# Altium schematic symbol library Temperature Sensor.SchLib: 361 symbols (part 8 of 9)
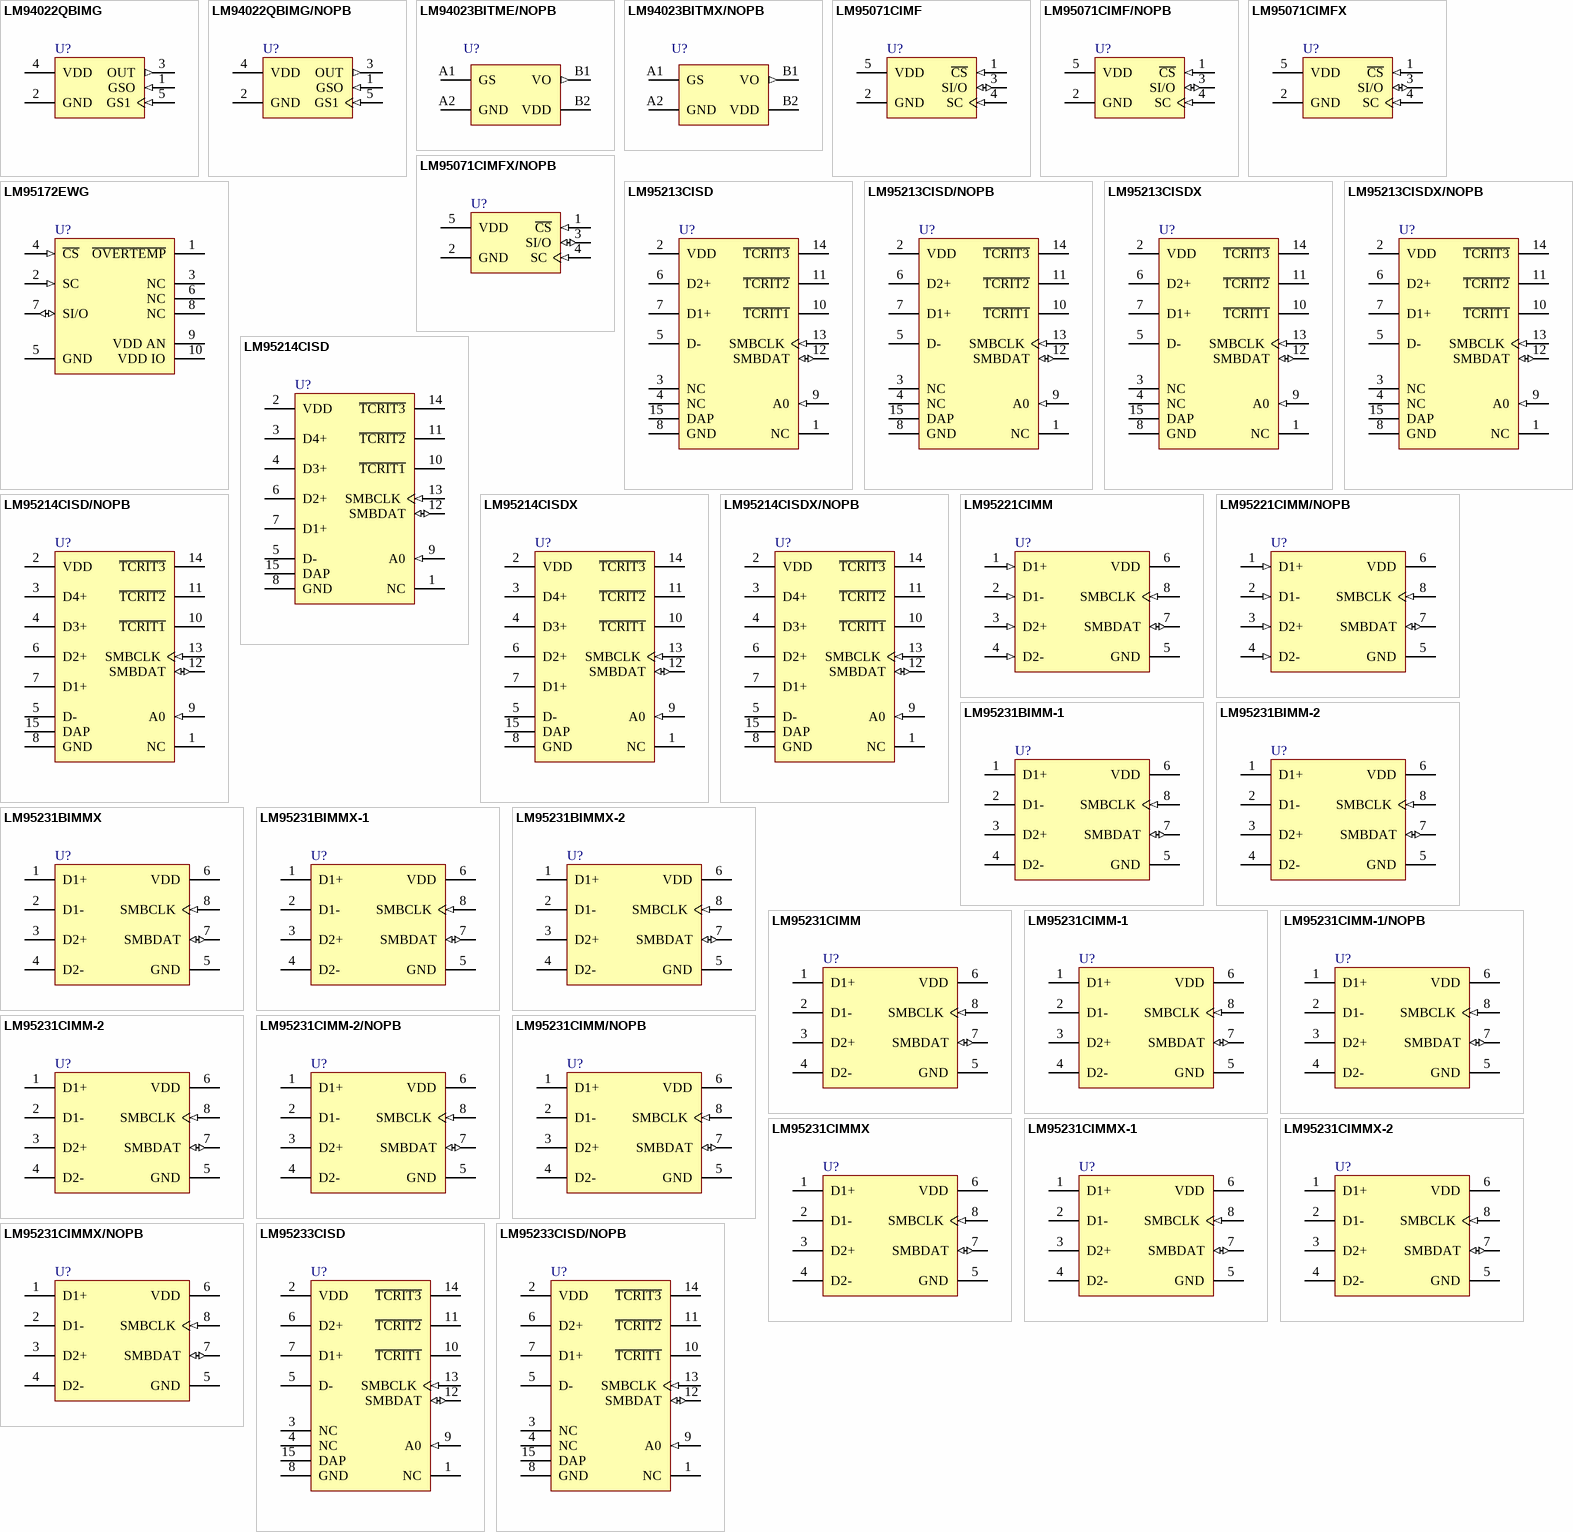
[diagram p16: symbols LM94022QBIMG to LM95233CISD/NOPB]

## LM95214CISDX/NOPB
designator U?
Quad Remote Diode and Local Temperature Sensor with SMBus Interface, 14-pin LLP, Pb-Free; PartNumber: LM95214CISDX/NOPB; Manufacturer: National Semiconductor; PackageTopMarking: NS*UZXYTT*95214CI; PowerWise: Y; CompType: Temp Sensor IC; DatasheetVersion: Mar-2007; PackageVersion: revA, Jul-2004; PackageReference: SDA14B; PackageDescription: LLP, Plastic, Dual, 4 x 4 x 0.8mm Body, 14 Lead, 0.5mm Pitch, No Pullback; RoHS: Y; PinCount: 14; High-Reliability: Y; ComponentLink1Description: Manufacturer URL; ComponentLink1URL: http://www.national.com/; ComponentLink2Description: LM95214 Datasheet; ComponentLink2URL: http://www.national.com/ds/LM/LM95214.pdf; ComponentLink3Description: LM95214 Web Page; ComponentLink3URL: http://www.national.com/pf/LM/LM95214.html; ComponentLink4Description: SDA14B Package Page; ComponentLink4URL: http://www.national.com/packaging/folders/sda14b.html
footprint SDA14B (SON, 14-Leads, Body 4x4mm, Pitch 0.5mm, NSC Recommended)
pins: 1 NC, 2 VDD (power), 3 D4+, 4 D3+, 5 D-, 6 D2+, 7 D1+, 8 GND (power), 9 A0 (in), 10 ~{TCRIT1} (oc), 11 ~{TCRIT2} (oc), 12 SMBDAT (io), 13 SMBCLK (in), 14 ~{TCRIT3} (oc), 15 DAP (power)

## LM95221CIMM
designator U?
Dual Remote Diode Digital Temperature Sensor with SMBus Interface, 8-pin Mini SOIC; PartNumber: LM95221CIMM; Manufacturer: National Semiconductor; PackageTopMarking: ZXTT*T21C; PowerWise: N; CompType: Temp Sensor IC; High-Reliability: Y; DatasheetVersion: May-2004; PackageVersion: revF, Apr-2008; PackageReference: MUA08A; PackageDescription: MINI SOIC, .118 x .118 x .034in, 8 Lead, .0256in Pitch; RoHS: N; PinCount: 8; Code_JEDEC: MO-187-AA; ComponentLink1Description: Manufacturer URL; ComponentLink1URL: http://www.national.com/; ComponentLink2Description: LM95221 Datasheet; ComponentLink2URL: http://www.national.com/ds/LM/LM95221.pdf; ComponentLink3Description: LM95221 Web Page; ComponentLink3URL: http://www.national.com/pf/LM/LM95221.html; ComponentLink4Description: MUA08A Package Page; ComponentLink4URL: http://www.national.com/packaging/folders/mua08a.html
footprint MUA08A_N (TSOP, 8-Leads, Body 3x3mm, Pitch 0.65mm, IPC Medium Density)
footprint MUA08A_L (TSOP, 8-Leads, Body 3x3mm, Pitch 0.65mm, IPC High Density)
footprint MUA08A_M (TSOP, 8-Leads, Body 3x3mm, Pitch 0.65mm, IPC Low Density)
pins: 1 D1+ (in), 2 D1- (in), 3 D2+ (in), 4 D2- (in), 5 GND (power), 6 VDD (power), 7 SMBDAT (io), 8 SMBCLK (in)

## LM95221CIMM/NOPB
designator U?
Dual Remote Diode Digital Temperature Sensor with SMBus Interface, 8-pin Mini SOIC, Pb-Free; PartNumber: LM95221CIMM/NOPB; Manufacturer: National Semiconductor; PackageTopMarking: ZXTT*T21C; PowerWise: N; CompType: Temp Sensor IC; High-Reliability: Y; DatasheetVersion: May-2004; PackageVersion: revF, Apr-2008; PackageReference: MUA08A; PackageDescription: MINI SOIC, .118 x .118 x .034in, 8 Lead, .0256in Pitch; RoHS: Y; PinCount: 8; Code_JEDEC: MO-187-AA; ComponentLink1Description: Manufacturer URL; ComponentLink1URL: http://www.national.com/; ComponentLink2Description: LM95221 Datasheet; ComponentLink2URL: http://www.national.com/ds/LM/LM95221.pdf; ComponentLink3Description: LM95221 Web Page; ComponentLink3URL: http://www.national.com/pf/LM/LM95221.html; ComponentLink4Description: MUA08A Package Page; ComponentLink4URL: http://www.national.com/packaging/folders/mua08a.html
footprint MUA08A_N (TSOP, 8-Leads, Body 3x3mm, Pitch 0.65mm, IPC Medium Density)
footprint MUA08A_L (TSOP, 8-Leads, Body 3x3mm, Pitch 0.65mm, IPC High Density)
footprint MUA08A_M (TSOP, 8-Leads, Body 3x3mm, Pitch 0.65mm, IPC Low Density)
pins: 1 D1+ (in), 2 D1- (in), 3 D2+ (in), 4 D2- (in), 5 GND (power), 6 VDD (power), 7 SMBDAT (io), 8 SMBCLK (in)

## LM95231BIMM-1
designator U?
Precision Dual Remote Diode Temperature Sensor with SMBus Interface and TruTherm Technology, 8-pin Mini SOIC; PartNumber: LM95231BIMM-1; Manufacturer: National Semiconductor; PackageTopMarking: ZXTT*T25B; PowerWise: N; CompType: Temp Sensor IC; High-Reliability: Y; DatasheetVersion: Aug-2006; PackageVersion: revF, Apr-2008; PackageReference: MUA08A; PackageDescription: MINI SOIC, .118 x .118 x .034in, 8 Lead, .0256in Pitch; RoHS: N; PinCount: 8; Code_JEDEC: MO-187-AA; ComponentLink1Description: Manufacturer URL; ComponentLink1URL: http://www.national.com/; ComponentLink2Description: LM95231 Datasheet; ComponentLink2URL: http://www.national.com/ds/LM/LM95231.pdf; ComponentLink3Description: LM95231 Web Page; ComponentLink3URL: http://www.national.com/pf/LM/LM95231.html; ComponentLink4Description: MUA08A Package Page; ComponentLink4URL: http://www.national.com/packaging/folders/mua08a.html
footprint MUA08A_N (TSOP, 8-Leads, Body 3x3mm, Pitch 0.65mm, IPC Medium Density)
footprint MUA08A_L (TSOP, 8-Leads, Body 3x3mm, Pitch 0.65mm, IPC High Density)
footprint MUA08A_M (TSOP, 8-Leads, Body 3x3mm, Pitch 0.65mm, IPC Low Density)
pins: 1 D1+, 2 D1-, 3 D2+, 4 D2-, 5 GND (power), 6 VDD (power), 7 SMBDAT (io), 8 SMBCLK (in)

## LM95231BIMM-2
designator U?
Precision Dual Remote Diode Temperature Sensor with SMBus Interface and TruTherm Technology, 8-pin Mini SOIC; PartNumber: LM95231BIMM-2; Manufacturer: National Semiconductor; PackageTopMarking: ZXTT*T26B; PowerWise: N; CompType: Temp Sensor IC; High-Reliability: Y; DatasheetVersion: Aug-2006; PackageVersion: revF, Apr-2008; PackageReference: MUA08A; PackageDescription: MINI SOIC, .118 x .118 x .034in, 8 Lead, .0256in Pitch; RoHS: N; PinCount: 8; Code_JEDEC: MO-187-AA; ComponentLink1Description: Manufacturer URL; ComponentLink1URL: http://www.national.com/; ComponentLink2Description: LM95231 Datasheet; ComponentLink2URL: http://www.national.com/ds/LM/LM95231.pdf; ComponentLink3Description: LM95231 Web Page; ComponentLink3URL: http://www.national.com/pf/LM/LM95231.html; ComponentLink4Description: MUA08A Package Page; ComponentLink4URL: http://www.national.com/packaging/folders/mua08a.html
footprint MUA08A_N (TSOP, 8-Leads, Body 3x3mm, Pitch 0.65mm, IPC Medium Density)
footprint MUA08A_L (TSOP, 8-Leads, Body 3x3mm, Pitch 0.65mm, IPC High Density)
footprint MUA08A_M (TSOP, 8-Leads, Body 3x3mm, Pitch 0.65mm, IPC Low Density)
pins: 1 D1+, 2 D1-, 3 D2+, 4 D2-, 5 GND (power), 6 VDD (power), 7 SMBDAT (io), 8 SMBCLK (in)

## LM95231BIMMX
designator U?
Precision Dual Remote Diode Temperature Sensor with SMBus Interface and TruTherm Technology, 8-pin Mini SOIC; PartNumber: LM95231BIMMX; Manufacturer: National Semiconductor; PackageTopMarking: ZXTT*T23B; PowerWise: N; CompType: Temp Sensor IC; High-Reliability: Y; DatasheetVersion: Aug-2006; PackageVersion: revF, Apr-2008; PackageReference: MUA08A; PackageDescription: MINI SOIC, .118 x .118 x .034in, 8 Lead, .0256in Pitch; RoHS: N; PinCount: 8; Code_JEDEC: MO-187-AA; ComponentLink1Description: Manufacturer URL; ComponentLink1URL: http://www.national.com/; ComponentLink2Description: LM95231 Datasheet; ComponentLink2URL: http://www.national.com/ds/LM/LM95231.pdf; ComponentLink3Description: LM95231 Web Page; ComponentLink3URL: http://www.national.com/pf/LM/LM95231.html; ComponentLink4Description: MUA08A Package Page; ComponentLink4URL: http://www.national.com/packaging/folders/mua08a.html
footprint MUA08A_N (TSOP, 8-Leads, Body 3x3mm, Pitch 0.65mm, IPC Medium Density)
footprint MUA08A_L (TSOP, 8-Leads, Body 3x3mm, Pitch 0.65mm, IPC High Density)
footprint MUA08A_M (TSOP, 8-Leads, Body 3x3mm, Pitch 0.65mm, IPC Low Density)
pins: 1 D1+, 2 D1-, 3 D2+, 4 D2-, 5 GND (power), 6 VDD (power), 7 SMBDAT (io), 8 SMBCLK (in)

## LM95231BIMMX-1
designator U?
Precision Dual Remote Diode Temperature Sensor with SMBus Interface and TruTherm Technology, 8-pin Mini SOIC; PartNumber: LM95231BIMMX-1; Manufacturer: National Semiconductor; PackageTopMarking: ZXTT*T25B; PowerWise: N; CompType: Temp Sensor IC; High-Reliability: Y; DatasheetVersion: Aug-2006; PackageVersion: revF, Apr-2008; PackageReference: MUA08A; PackageDescription: MINI SOIC, .118 x .118 x .034in, 8 Lead, .0256in Pitch; RoHS: N; PinCount: 8; Code_JEDEC: MO-187-AA; ComponentLink1Description: Manufacturer URL; ComponentLink1URL: http://www.national.com/; ComponentLink2Description: LM95231 Datasheet; ComponentLink2URL: http://www.national.com/ds/LM/LM95231.pdf; ComponentLink3Description: LM95231 Web Page; ComponentLink3URL: http://www.national.com/pf/LM/LM95231.html; ComponentLink4Description: MUA08A Package Page; ComponentLink4URL: http://www.national.com/packaging/folders/mua08a.html
footprint MUA08A_N (TSOP, 8-Leads, Body 3x3mm, Pitch 0.65mm, IPC Medium Density)
footprint MUA08A_L (TSOP, 8-Leads, Body 3x3mm, Pitch 0.65mm, IPC High Density)
footprint MUA08A_M (TSOP, 8-Leads, Body 3x3mm, Pitch 0.65mm, IPC Low Density)
pins: 1 D1+, 2 D1-, 3 D2+, 4 D2-, 5 GND (power), 6 VDD (power), 7 SMBDAT (io), 8 SMBCLK (in)

## LM95231BIMMX-2
designator U?
Precision Dual Remote Diode Temperature Sensor with SMBus Interface and TruTherm Technology, 8-pin Mini SOIC; PartNumber: LM95231BIMMX-2; Manufacturer: National Semiconductor; PackageTopMarking: ZXTT*T26B; PowerWise: N; CompType: Temp Sensor IC; High-Reliability: Y; DatasheetVersion: Aug-2006; PackageVersion: revF, Apr-2008; PackageReference: MUA08A; PackageDescription: MINI SOIC, .118 x .118 x .034in, 8 Lead, .0256in Pitch; RoHS: N; PinCount: 8; Code_JEDEC: MO-187-AA; ComponentLink1Description: Manufacturer URL; ComponentLink1URL: http://www.national.com/; ComponentLink2Description: LM95231 Datasheet; ComponentLink2URL: http://www.national.com/ds/LM/LM95231.pdf; ComponentLink3Description: LM95231 Web Page; ComponentLink3URL: http://www.national.com/pf/LM/LM95231.html; ComponentLink4Description: MUA08A Package Page; ComponentLink4URL: http://www.national.com/packaging/folders/mua08a.html
footprint MUA08A_N (TSOP, 8-Leads, Body 3x3mm, Pitch 0.65mm, IPC Medium Density)
footprint MUA08A_L (TSOP, 8-Leads, Body 3x3mm, Pitch 0.65mm, IPC High Density)
footprint MUA08A_M (TSOP, 8-Leads, Body 3x3mm, Pitch 0.65mm, IPC Low Density)
pins: 1 D1+, 2 D1-, 3 D2+, 4 D2-, 5 GND (power), 6 VDD (power), 7 SMBDAT (io), 8 SMBCLK (in)

## LM95231CIMM
designator U?
Precision Dual Remote Diode Temperature Sensor with SMBus Interface and TruTherm Technology, 8-pin Mini SOIC; PartNumber: LM95231CIMM; Manufacturer: National Semiconductor; PackageTopMarking: ZXTT*T23C; PowerWise: N; CompType: Temp Sensor IC; High-Reliability: Y; DatasheetVersion: Aug-2006; PackageVersion: revF, Apr-2008; PackageReference: MUA08A; PackageDescription: MINI SOIC, .118 x .118 x .034in, 8 Lead, .0256in Pitch; RoHS: Y; PinCount: 8; Code_JEDEC: MO-187-AA; ComponentLink1Description: Manufacturer URL; ComponentLink1URL: http://www.national.com/; ComponentLink2Description: LM95231 Datasheet; ComponentLink2URL: http://www.national.com/ds/LM/LM95231.pdf; ComponentLink3Description: LM95231 Web Page; ComponentLink3URL: http://www.national.com/pf/LM/LM95231.html; ComponentLink4Description: MUA08A Package Page; ComponentLink4URL: http://www.national.com/packaging/folders/mua08a.html
footprint MUA08A_N (TSOP, 8-Leads, Body 3x3mm, Pitch 0.65mm, IPC Medium Density)
footprint MUA08A_L (TSOP, 8-Leads, Body 3x3mm, Pitch 0.65mm, IPC High Density)
footprint MUA08A_M (TSOP, 8-Leads, Body 3x3mm, Pitch 0.65mm, IPC Low Density)
pins: 1 D1+, 2 D1-, 3 D2+, 4 D2-, 5 GND (power), 6 VDD (power), 7 SMBDAT (io), 8 SMBCLK (in)

## LM95231CIMM-1
designator U?
Precision Dual Remote Diode Temperature Sensor with SMBus Interface and TruTherm Technology, 8-pin Mini SOIC; PartNumber: LM95231CIMM-1; Manufacturer: National Semiconductor; PackageTopMarking: ZXTT*T25C; PowerWise: N; CompType: Temp Sensor IC; High-Reliability: Y; DatasheetVersion: Aug-2006; PackageVersion: revF, Apr-2008; PackageReference: MUA08A; PackageDescription: MINI SOIC, .118 x .118 x .034in, 8 Lead, .0256in Pitch; RoHS: N; PinCount: 8; Code_JEDEC: MO-187-AA; ComponentLink1Description: Manufacturer URL; ComponentLink1URL: http://www.national.com/; ComponentLink2Description: LM95231 Datasheet; ComponentLink2URL: http://www.national.com/ds/LM/LM95231.pdf; ComponentLink3Description: LM95231 Web Page; ComponentLink3URL: http://www.national.com/pf/LM/LM95231.html; ComponentLink4Description: MUA08A Package Page; ComponentLink4URL: http://www.national.com/packaging/folders/mua08a.html
footprint MUA08A_N (TSOP, 8-Leads, Body 3x3mm, Pitch 0.65mm, IPC Medium Density)
footprint MUA08A_L (TSOP, 8-Leads, Body 3x3mm, Pitch 0.65mm, IPC High Density)
footprint MUA08A_M (TSOP, 8-Leads, Body 3x3mm, Pitch 0.65mm, IPC Low Density)
pins: 1 D1+, 2 D1-, 3 D2+, 4 D2-, 5 GND (power), 6 VDD (power), 7 SMBDAT (io), 8 SMBCLK (in)

## LM95231CIMM-1/NOPB
designator U?
Precision Dual Remote Diode Temperature Sensor with SMBus Interface and TruTherm Technology, 8-pin Mini SOIC, Pb-Free; PartNumber: LM95231CIMM-1/NOPB; Manufacturer: National Semiconductor; PackageTopMarking: ZXTT*T25C; PowerWise: N; CompType: Temp Sensor IC; High-Reliability: Y; DatasheetVersion: Aug-2006; PackageVersion: revF, Apr-2008; PackageReference: MUA08A; PackageDescription: MINI SOIC, .118 x .118 x .034in, 8 Lead, .0256in Pitch; RoHS: Y; PinCount: 8; Code_JEDEC: MO-187-AA; ComponentLink1Description: Manufacturer URL; ComponentLink1URL: http://www.national.com/; ComponentLink2Description: LM95231 Datasheet; ComponentLink2URL: http://www.national.com/ds/LM/LM95231.pdf; ComponentLink3Description: LM95231 Web Page; ComponentLink3URL: http://www.national.com/pf/LM/LM95231.html; ComponentLink4Description: MUA08A Package Page; ComponentLink4URL: http://www.national.com/packaging/folders/mua08a.html
footprint MUA08A_N (TSOP, 8-Leads, Body 3x3mm, Pitch 0.65mm, IPC Medium Density)
footprint MUA08A_L (TSOP, 8-Leads, Body 3x3mm, Pitch 0.65mm, IPC High Density)
footprint MUA08A_M (TSOP, 8-Leads, Body 3x3mm, Pitch 0.65mm, IPC Low Density)
pins: 1 D1+, 2 D1-, 3 D2+, 4 D2-, 5 GND (power), 6 VDD (power), 7 SMBDAT (io), 8 SMBCLK (in)

## LM95231CIMM-2
designator U?
Precision Dual Remote Diode Temperature Sensor with SMBus Interface and TruTherm Technology, 8-pin Mini SOIC; PartNumber: LM95231CIMM-2; Manufacturer: National Semiconductor; PackageTopMarking: ZXTT*T26C; PowerWise: N; CompType: Temp Sensor IC; High-Reliability: Y; DatasheetVersion: Aug-2006; PackageVersion: revF, Apr-2008; PackageReference: MUA08A; PackageDescription: MINI SOIC, .118 x .118 x .034in, 8 Lead, .0256in Pitch; RoHS: N; PinCount: 8; Code_JEDEC: MO-187-AA; ComponentLink1Description: Manufacturer URL; ComponentLink1URL: http://www.national.com/; ComponentLink2Description: LM95231 Datasheet; ComponentLink2URL: http://www.national.com/ds/LM/LM95231.pdf; ComponentLink3Description: LM95231 Web Page; ComponentLink3URL: http://www.national.com/pf/LM/LM95231.html; ComponentLink4Description: MUA08A Package Page; ComponentLink4URL: http://www.national.com/packaging/folders/mua08a.html
footprint MUA08A_N (TSOP, 8-Leads, Body 3x3mm, Pitch 0.65mm, IPC Medium Density)
footprint MUA08A_L (TSOP, 8-Leads, Body 3x3mm, Pitch 0.65mm, IPC High Density)
footprint MUA08A_M (TSOP, 8-Leads, Body 3x3mm, Pitch 0.65mm, IPC Low Density)
pins: 1 D1+, 2 D1-, 3 D2+, 4 D2-, 5 GND (power), 6 VDD (power), 7 SMBDAT (io), 8 SMBCLK (in)

## LM95231CIMM-2/NOPB
designator U?
Precision Dual Remote Diode Temperature Sensor with SMBus Interface and TruTherm Technology, 8-pin Mini SOIC, Pb-Free; PartNumber: LM95231CIMM-2/NOPB; Manufacturer: National Semiconductor; PackageTopMarking: ZXTT*T26C; PowerWise: N; CompType: Temp Sensor IC; High-Reliability: Y; DatasheetVersion: Aug-2006; PackageVersion: revF, Apr-2008; PackageReference: MUA08A; PackageDescription: MINI SOIC, .118 x .118 x .034in, 8 Lead, .0256in Pitch; RoHS: Y; PinCount: 8; Code_JEDEC: MO-187-AA; ComponentLink1Description: Manufacturer URL; ComponentLink1URL: http://www.national.com/; ComponentLink2Description: LM95231 Datasheet; ComponentLink2URL: http://www.national.com/ds/LM/LM95231.pdf; ComponentLink3Description: LM95231 Web Page; ComponentLink3URL: http://www.national.com/pf/LM/LM95231.html; ComponentLink4Description: MUA08A Package Page; ComponentLink4URL: http://www.national.com/packaging/folders/mua08a.html
footprint MUA08A_N (TSOP, 8-Leads, Body 3x3mm, Pitch 0.65mm, IPC Medium Density)
footprint MUA08A_L (TSOP, 8-Leads, Body 3x3mm, Pitch 0.65mm, IPC High Density)
footprint MUA08A_M (TSOP, 8-Leads, Body 3x3mm, Pitch 0.65mm, IPC Low Density)
pins: 1 D1+, 2 D1-, 3 D2+, 4 D2-, 5 GND (power), 6 VDD (power), 7 SMBDAT (io), 8 SMBCLK (in)

## LM95231CIMM/NOPB
designator U?
Precision Dual Remote Diode Temperature Sensor with SMBus Interface and TruTherm Technology, 8-pin Mini SOIC, Pb-Free; PartNumber: LM95231CIMM/NOPB; Manufacturer: National Semiconductor; PackageTopMarking: ZXTT*T23C; PowerWise: N; CompType: Temp Sensor IC; High-Reliability: Y; DatasheetVersion: Aug-2006; PackageVersion: revF, Apr-2008; PackageReference: MUA08A; PackageDescription: MINI SOIC, .118 x .118 x .034in, 8 Lead, .0256in Pitch; RoHS: Y; PinCount: 8; Code_JEDEC: MO-187-AA; ComponentLink1Description: Manufacturer URL; ComponentLink1URL: http://www.national.com/; ComponentLink2Description: LM95231 Datasheet; ComponentLink2URL: http://www.national.com/ds/LM/LM95231.pdf; ComponentLink3Description: LM95231 Web Page; ComponentLink3URL: http://www.national.com/pf/LM/LM95231.html; ComponentLink4Description: MUA08A Package Page; ComponentLink4URL: http://www.national.com/packaging/folders/mua08a.html
footprint MUA08A_N (TSOP, 8-Leads, Body 3x3mm, Pitch 0.65mm, IPC Medium Density)
footprint MUA08A_L (TSOP, 8-Leads, Body 3x3mm, Pitch 0.65mm, IPC High Density)
footprint MUA08A_M (TSOP, 8-Leads, Body 3x3mm, Pitch 0.65mm, IPC Low Density)
pins: 1 D1+, 2 D1-, 3 D2+, 4 D2-, 5 GND (power), 6 VDD (power), 7 SMBDAT (io), 8 SMBCLK (in)

## LM95231CIMMX
designator U?
Precision Dual Remote Diode Temperature Sensor with SMBus Interface and TruTherm Technology, 8-pin Mini SOIC; PartNumber: LM95231CIMMX; Manufacturer: National Semiconductor; PackageTopMarking: ZXTT*T23C; PowerWise: N; CompType: Temp Sensor IC; High-Reliability: Y; DatasheetVersion: Aug-2006; PackageVersion: revF, Apr-2008; PackageReference: MUA08A; PackageDescription: MINI SOIC, .118 x .118 x .034in, 8 Lead, .0256in Pitch; RoHS: N; PinCount: 8; Code_JEDEC: MO-187-AA; ComponentLink1Description: Manufacturer URL; ComponentLink1URL: http://www.national.com/; ComponentLink2Description: LM95231 Datasheet; ComponentLink2URL: http://www.national.com/ds/LM/LM95231.pdf; ComponentLink3Description: LM95231 Web Page; ComponentLink3URL: http://www.national.com/pf/LM/LM95231.html; ComponentLink4Description: MUA08A Package Page; ComponentLink4URL: http://www.national.com/packaging/folders/mua08a.html
footprint MUA08A_N (TSOP, 8-Leads, Body 3x3mm, Pitch 0.65mm, IPC Medium Density)
footprint MUA08A_L (TSOP, 8-Leads, Body 3x3mm, Pitch 0.65mm, IPC High Density)
footprint MUA08A_M (TSOP, 8-Leads, Body 3x3mm, Pitch 0.65mm, IPC Low Density)
pins: 1 D1+, 2 D1-, 3 D2+, 4 D2-, 5 GND (power), 6 VDD (power), 7 SMBDAT (io), 8 SMBCLK (in)

## LM95231CIMMX-1
designator U?
Precision Dual Remote Diode Temperature Sensor with SMBus Interface and TruTherm Technology, 8-pin Mini SOIC; PartNumber: LM95231CIMMX-1; Manufacturer: National Semiconductor; PackageTopMarking: ZXTT*T25C; PowerWise: N; CompType: Temp Sensor IC; High-Reliability: Y; DatasheetVersion: Aug-2006; PackageVersion: revF, Apr-2008; PackageReference: MUA08A; PackageDescription: MINI SOIC, .118 x .118 x .034in, 8 Lead, .0256in Pitch; RoHS: N; PinCount: 8; Code_JEDEC: MO-187-AA; ComponentLink1Description: Manufacturer URL; ComponentLink1URL: http://www.national.com/; ComponentLink2Description: LM95231 Datasheet; ComponentLink2URL: http://www.national.com/ds/LM/LM95231.pdf; ComponentLink3Description: LM95231 Web Page; ComponentLink3URL: http://www.national.com/pf/LM/LM95231.html; ComponentLink4Description: MUA08A Package Page; ComponentLink4URL: http://www.national.com/packaging/folders/mua08a.html
footprint MUA08A_N (TSOP, 8-Leads, Body 3x3mm, Pitch 0.65mm, IPC Medium Density)
footprint MUA08A_L (TSOP, 8-Leads, Body 3x3mm, Pitch 0.65mm, IPC High Density)
footprint MUA08A_M (TSOP, 8-Leads, Body 3x3mm, Pitch 0.65mm, IPC Low Density)
pins: 1 D1+, 2 D1-, 3 D2+, 4 D2-, 5 GND (power), 6 VDD (power), 7 SMBDAT (io), 8 SMBCLK (in)

## LM95231CIMMX-2
designator U?
Precision Dual Remote Diode Temperature Sensor with SMBus Interface and TruTherm Technology, 8-pin Mini SOIC; PartNumber: LM95231CIMMX-2; Manufacturer: National Semiconductor; PackageTopMarking: ZXTT*T26C; PowerWise: N; CompType: Temp Sensor IC; High-Reliability: Y; DatasheetVersion: Aug-2006; PackageVersion: revF, Apr-2008; PackageReference: MUA08A; PackageDescription: MINI SOIC, .118 x .118 x .034in, 8 Lead, .0256in Pitch; RoHS: N; PinCount: 8; Code_JEDEC: MO-187-AA; ComponentLink1Description: Manufacturer URL; ComponentLink1URL: http://www.national.com/; ComponentLink2Description: LM95231 Datasheet; ComponentLink2URL: http://www.national.com/ds/LM/LM95231.pdf; ComponentLink3Description: LM95231 Web Page; ComponentLink3URL: http://www.national.com/pf/LM/LM95231.html; ComponentLink4Description: MUA08A Package Page; ComponentLink4URL: http://www.national.com/packaging/folders/mua08a.html
footprint MUA08A_N (TSOP, 8-Leads, Body 3x3mm, Pitch 0.65mm, IPC Medium Density)
footprint MUA08A_L (TSOP, 8-Leads, Body 3x3mm, Pitch 0.65mm, IPC High Density)
footprint MUA08A_M (TSOP, 8-Leads, Body 3x3mm, Pitch 0.65mm, IPC Low Density)
pins: 1 D1+, 2 D1-, 3 D2+, 4 D2-, 5 GND (power), 6 VDD (power), 7 SMBDAT (io), 8 SMBCLK (in)

## LM95231CIMMX/NOPB
designator U?
Precision Dual Remote Diode Temperature Sensor with SMBus Interface and TruTherm Technology, 8-pin Mini SOIC, Pb-Free; PartNumber: LM95231CIMMX/NOPB; Manufacturer: National Semiconductor; PackageTopMarking: ZXTT*T23C; PowerWise: N; CompType: Temp Sensor IC; High-Reliability: Y; DatasheetVersion: Aug-2006; PackageVersion: revF, Apr-2008; PackageReference: MUA08A; PackageDescription: MINI SOIC, .118 x .118 x .034in, 8 Lead, .0256in Pitch; RoHS: Y; PinCount: 8; Code_JEDEC: MO-187-AA; ComponentLink1Description: Manufacturer URL; ComponentLink1URL: http://www.national.com/; ComponentLink2Description: LM95231 Datasheet; ComponentLink2URL: http://www.national.com/ds/LM/LM95231.pdf; ComponentLink3Description: LM95231 Web Page; ComponentLink3URL: http://www.national.com/pf/LM/LM95231.html; ComponentLink4Description: MUA08A Package Page; ComponentLink4URL: http://www.national.com/packaging/folders/mua08a.html
footprint MUA08A_N (TSOP, 8-Leads, Body 3x3mm, Pitch 0.65mm, IPC Medium Density)
footprint MUA08A_L (TSOP, 8-Leads, Body 3x3mm, Pitch 0.65mm, IPC High Density)
footprint MUA08A_M (TSOP, 8-Leads, Body 3x3mm, Pitch 0.65mm, IPC Low Density)
pins: 1 D1+, 2 D1-, 3 D2+, 4 D2-, 5 GND (power), 6 VDD (power), 7 SMBDAT (io), 8 SMBCLK (in)

## LM95233CISD
designator U?
Dual Remote Diode and Local Temperature Sensor with SMBus Interface and TruTherm Technology, 15-pin LLP; PartNumber: LM95233CISD; Manufacturer: National Semiconductor; PackageTopMarking: NS*UZXYTT*95233CI; PowerWise: Y; CompType: Temp Sensor IC; DatasheetVersion: Jun-2007; PackageVersion: revA, Jul-2004; PackageReference: SDA14B; PackageDescription: LLP, Plastic, Dual, 4 x 4 x 0.8mm Body, 14 Lead, 0.5mm Pitch, No Pullback; RoHS: N; PinCount: 14; High-Reliability: Y; ComponentLink1Description: Manufacturer URL; ComponentLink1URL: http://www.national.com/; ComponentLink2Description: LM95233 Datasheet; ComponentLink2URL: http://www.national.com/ds/LM/LM95233.pdf; ComponentLink3Description: LM95233 Web Page; ComponentLink3URL: http://www.national.com/pf/LM/LM95233.html; ComponentLink4Description: SDA14B Package Page; ComponentLink4URL: http://www.national.com/packaging/folders/sda14b.html
footprint SDA14B (SON, 14-Leads, Body 4x4mm, Pitch 0.5mm, NSC Recommended)
pins: 1 NC, 2 VDD (power), 3 NC, 4 NC, 5 D-, 6 D2+, 7 D1+, 8 GND (power), 9 A0 (in), 10 ~{TCRIT1} (oc), 11 ~{TCRIT2} (oc), 12 SMBDAT (io), 13 SMBCLK (in), 14 ~{TCRIT3} (oc), 15 DAP (power)

## LM95233CISD/NOPB
designator U?
Dual Remote Diode and Local Temperature Sensor with SMBus Interface and TruTherm Technology, 14-pin LLP, Pb-Free; PartNumber: LM95233CISD/NOPB; Manufacturer: National Semiconductor; PackageTopMarking: NS*UZXYTT*95233CI; PowerWise: Y; CompType: Temp Sensor IC; DatasheetVersion: Jun-2007; PackageVersion: revA, Jul-2004; PackageReference: SDA14B; PackageDescription: LLP, Plastic, Dual, 4 x 4 x 0.8mm Body, 14 Lead, 0.5mm Pitch, No Pullback; RoHS: Y; PinCount: 14; High-Reliability: Y; ComponentLink1Description: Manufacturer URL; ComponentLink1URL: http://www.national.com/; ComponentLink2Description: LM95233 Datasheet; ComponentLink2URL: http://www.national.com/ds/LM/LM95233.pdf; ComponentLink3Description: LM95233 Web Page; ComponentLink3URL: http://www.national.com/pf/LM/LM95233.html; ComponentLink4Description: SDA14B Package Page; ComponentLink4URL: http://www.national.com/packaging/folders/sda14b.html
footprint SDA14B (SON, 14-Leads, Body 4x4mm, Pitch 0.5mm, NSC Recommended)
pins: 1 NC, 2 VDD (power), 3 NC, 4 NC, 5 D-, 6 D2+, 7 D1+, 8 GND (power), 9 A0 (in), 10 ~{TCRIT1} (oc), 11 ~{TCRIT2} (oc), 12 SMBDAT (io), 13 SMBCLK (in), 14 ~{TCRIT3} (oc), 15 DAP (power)

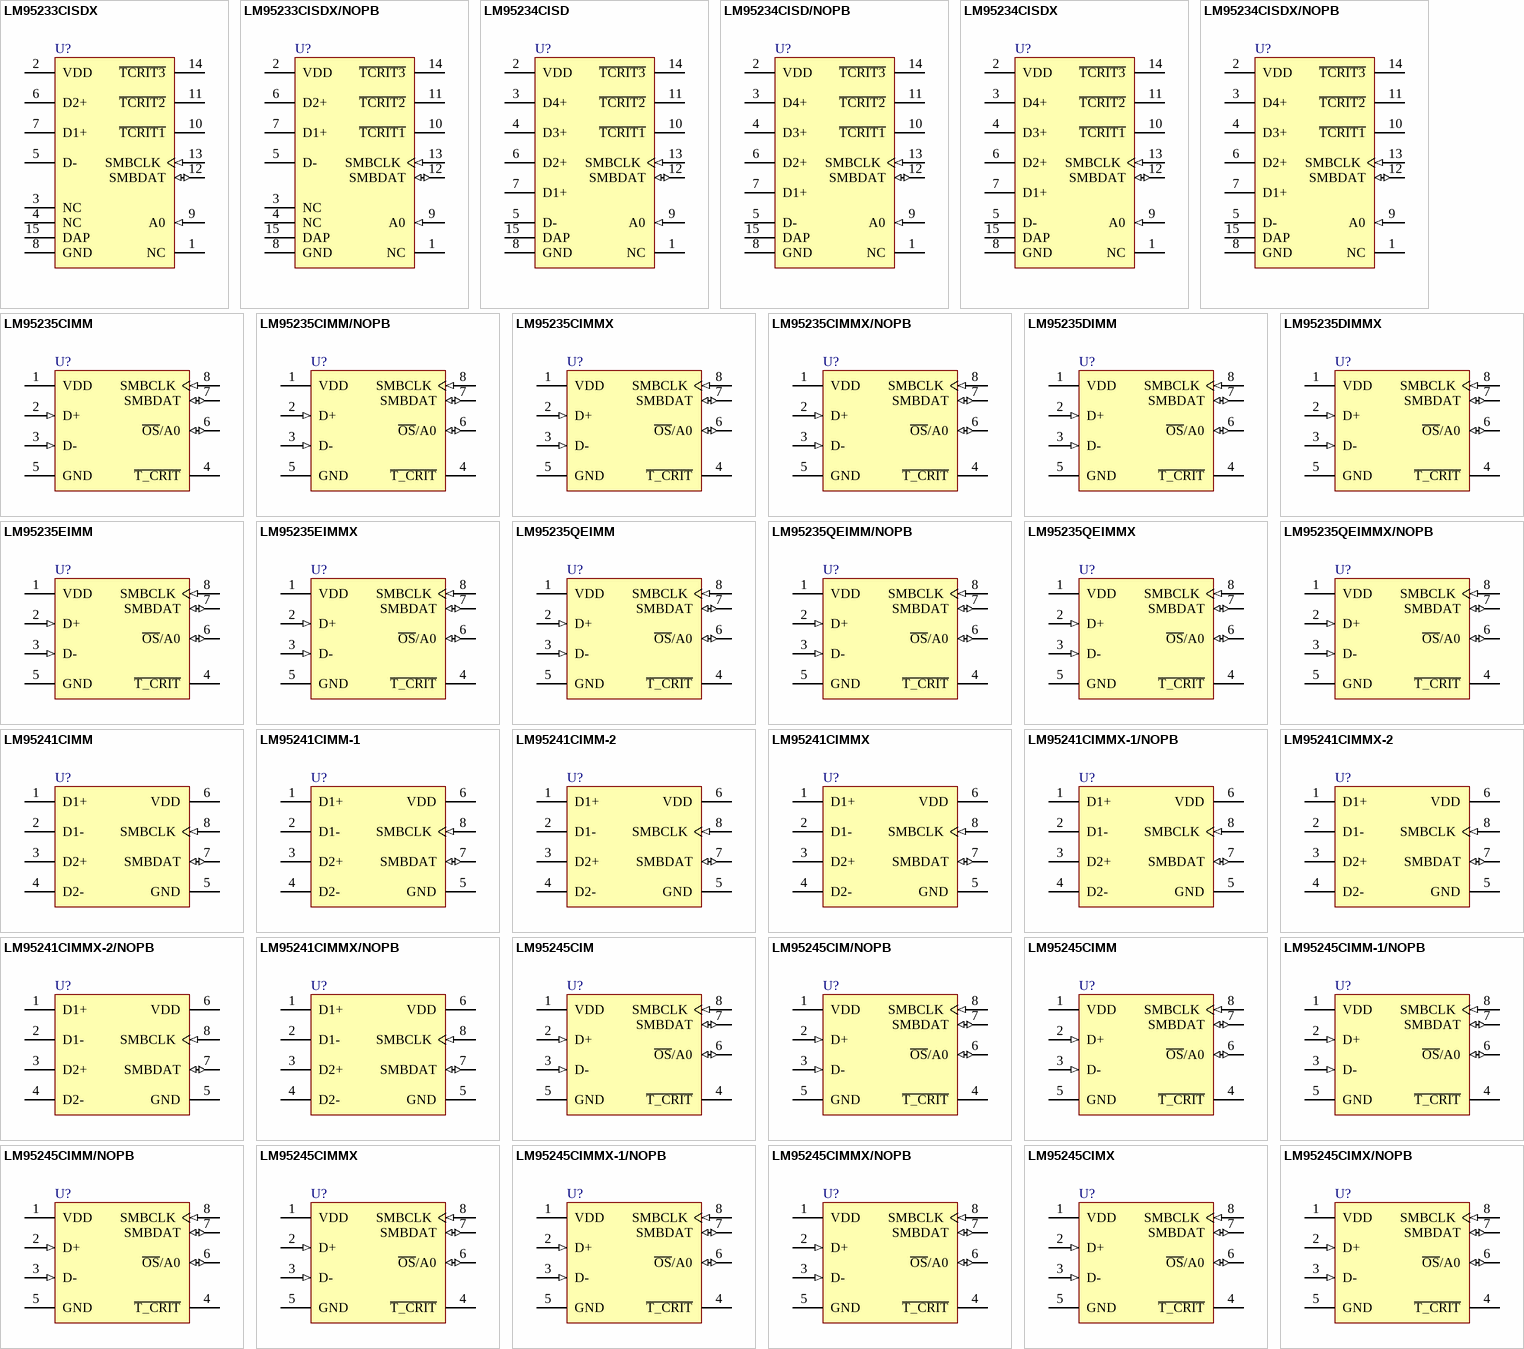
[diagram p8: symbols LM95233CISDX to LM95245CIMX/NOPB]

## LM95233CISDX
designator U?
Dual Remote Diode and Local Temperature Sensor with SMBus Interface and TruTherm Technology, 14-pin LLP; PartNumber: LM95233CISDX; Manufacturer: National Semiconductor; PackageTopMarking: NS*UZXYTT*95233CI; PowerWise: Y; CompType: Temp Sensor IC; DatasheetVersion: Jun-2007; PackageVersion: revA, Jul-2004; PackageReference: SDA14B; PackageDescription: LLP, Plastic, Dual, 4 x 4 x 0.8mm Body, 14 Lead, 0.5mm Pitch, No Pullback; RoHS: N; PinCount: 14; High-Reliability: Y; ComponentLink1Description: Manufacturer URL; ComponentLink1URL: http://www.national.com/; ComponentLink2Description: LM95233 Datasheet; ComponentLink2URL: http://www.national.com/ds/LM/LM95233.pdf; ComponentLink3Description: LM95233 Web Page; ComponentLink3URL: http://www.national.com/pf/LM/LM95233.html; ComponentLink4Description: SDA14B Package Page; ComponentLink4URL: http://www.national.com/packaging/folders/sda14b.html
footprint SDA14B (SON, 14-Leads, Body 4x4mm, Pitch 0.5mm, NSC Recommended)
pins: 1 NC, 2 VDD (power), 3 NC, 4 NC, 5 D-, 6 D2+, 7 D1+, 8 GND (power), 9 A0 (in), 10 ~{TCRIT1} (oc), 11 ~{TCRIT2} (oc), 12 SMBDAT (io), 13 SMBCLK (in), 14 ~{TCRIT3} (oc), 15 DAP (power)

## LM95233CISDX/NOPB
designator U?
Dual Remote Diode and Local Temperature Sensor with SMBus Interface and TruTherm Technology, 14-pin LLP, Pb-Free; PartNumber: LM95233CISDX/NOPB; Manufacturer: National Semiconductor; PackageTopMarking: NS*UZXYTT*95233CI; PowerWise: Y; CompType: Temp Sensor IC; DatasheetVersion: Jun-2007; PackageVersion: revA, Jul-2004; PackageReference: SDA14B; PackageDescription: LLP, Plastic, Dual, 4 x 4 x 0.8mm Body, 14 Lead, 0.5mm Pitch, No Pullback; RoHS: Y; PinCount: 14; High-Reliability: Y; ComponentLink1Description: Manufacturer URL; ComponentLink1URL: http://www.national.com/; ComponentLink2Description: LM95233 Datasheet; ComponentLink2URL: http://www.national.com/ds/LM/LM95233.pdf; ComponentLink3Description: LM95233 Web Page; ComponentLink3URL: http://www.national.com/pf/LM/LM95233.html; ComponentLink4Description: SDA14B Package Page; ComponentLink4URL: http://www.national.com/packaging/folders/sda14b.html
footprint SDA14B (SON, 14-Leads, Body 4x4mm, Pitch 0.5mm, NSC Recommended)
pins: 1 NC, 2 VDD (power), 3 NC, 4 NC, 5 D-, 6 D2+, 7 D1+, 8 GND (power), 9 A0 (in), 10 ~{TCRIT1} (oc), 11 ~{TCRIT2} (oc), 12 SMBDAT (io), 13 SMBCLK (in), 14 ~{TCRIT3} (oc), 15 DAP (power)

## LM95234CISD
designator U?
Quad Remote Diode and Local Temperature Sensor with SMBus Interface and TruTherm Technology, 15-pin LLP; PartNumber: LM95234CISD; Manufacturer: National Semiconductor; PackageTopMarking: NS*UZXYTT*95234CI; PowerWise: Y; CompType: Temp Sensor IC; DatasheetVersion: Jun-2007; PackageVersion: revA, Jul-2004; PackageReference: SDA14B; PackageDescription: LLP, Plastic, Dual, 4 x 4 x 0.8mm Body, 14 Lead, 0.5mm Pitch, No Pullback; RoHS: N; PinCount: 14; High-Reliability: Y; ComponentLink1Description: Manufacturer URL; ComponentLink1URL: http://www.national.com/; ComponentLink2Description: LM95234 Datasheet; ComponentLink2URL: http://www.national.com/ds/LM/LM95234.pdf; ComponentLink3Description: LM95234 Web Page; ComponentLink3URL: http://www.national.com/pf/LM/LM95234.html; ComponentLink4Description: SDA14B Package Page; ComponentLink4URL: http://www.national.com/packaging/folders/sda14b.html
footprint SDA14B (SON, 14-Leads, Body 4x4mm, Pitch 0.5mm, NSC Recommended)
pins: 1 NC, 2 VDD (power), 3 D4+, 4 D3+, 5 D-, 6 D2+, 7 D1+, 8 GND (power), 9 A0 (in), 10 ~{TCRIT1} (oc), 11 ~{TCRIT2} (oc), 12 SMBDAT (io), 13 SMBCLK (in), 14 ~{TCRIT3} (oc), 15 DAP (power)

## LM95234CISD/NOPB
designator U?
Quad Remote Diode and Local Temperature Sensor with SMBus Interface and TruTherm Technology, 14-pin LLP, Pb-Free; PartNumber: LM95234CISD/NOPB; Manufacturer: National Semiconductor; PackageTopMarking: NS*UZXYTT*95234CI; PowerWise: Y; CompType: Temp Sensor IC; DatasheetVersion: Jun-2007; PackageVersion: revA, Jul-2004; PackageReference: SDA14B; PackageDescription: LLP, Plastic, Dual, 4 x 4 x 0.8mm Body, 14 Lead, 0.5mm Pitch, No Pullback; RoHS: Y; PinCount: 14; High-Reliability: Y; ComponentLink1Description: Manufacturer URL; ComponentLink1URL: http://www.national.com/; ComponentLink2Description: LM95234 Datasheet; ComponentLink2URL: http://www.national.com/ds/LM/LM95234.pdf; ComponentLink3Description: LM95234 Web Page; ComponentLink3URL: http://www.national.com/pf/LM/LM95234.html; ComponentLink4Description: SDA14B Package Page; ComponentLink4URL: http://www.national.com/packaging/folders/sda14b.html
footprint SDA14B (SON, 14-Leads, Body 4x4mm, Pitch 0.5mm, NSC Recommended)
pins: 1 NC, 2 VDD (power), 3 D4+, 4 D3+, 5 D-, 6 D2+, 7 D1+, 8 GND (power), 9 A0 (in), 10 ~{TCRIT1} (oc), 11 ~{TCRIT2} (oc), 12 SMBDAT (io), 13 SMBCLK (in), 14 ~{TCRIT3} (oc), 15 DAP (power)

## LM95234CISDX
designator U?
Quad Remote Diode and Local Temperature Sensor with SMBus Interface and TruTherm Technology, 14-pin LLP; PartNumber: LM95234CISDX; Manufacturer: National Semiconductor; PackageTopMarking: NS*UZXYTT*95234CI; PowerWise: Y; CompType: Temp Sensor IC; DatasheetVersion: Jun-2007; PackageVersion: revA, Jul-2004; PackageReference: SDA14B; PackageDescription: LLP, Plastic, Dual, 4 x 4 x 0.8mm Body, 14 Lead, 0.5mm Pitch, No Pullback; RoHS: N; PinCount: 14; High-Reliability: Y; ComponentLink1Description: Manufacturer URL; ComponentLink1URL: http://www.national.com/; ComponentLink2Description: LM95234 Datasheet; ComponentLink2URL: http://www.national.com/ds/LM/LM95234.pdf; ComponentLink3Description: LM95234 Web Page; ComponentLink3URL: http://www.national.com/pf/LM/LM95234.html; ComponentLink4Description: SDA14B Package Page; ComponentLink4URL: http://www.national.com/packaging/folders/sda14b.html
footprint SDA14B (SON, 14-Leads, Body 4x4mm, Pitch 0.5mm, NSC Recommended)
pins: 1 NC, 2 VDD (power), 3 D4+, 4 D3+, 5 D-, 6 D2+, 7 D1+, 8 GND (power), 9 A0 (in), 10 ~{TCRIT1} (oc), 11 ~{TCRIT2} (oc), 12 SMBDAT (io), 13 SMBCLK (in), 14 ~{TCRIT3} (oc), 15 DAP (power)

## LM95234CISDX/NOPB
designator U?
Quad Remote Diode and Local Temperature Sensor with SMBus Interface and TruTherm Technology, 14-pin LLP, Pb-Free; PartNumber: LM95234CISDX/NOPB; Manufacturer: National Semiconductor; PackageTopMarking: NS*UZXYTT*95234CI; PowerWise: Y; CompType: Temp Sensor IC; DatasheetVersion: Jun-2007; PackageVersion: revA, Jul-2004; PackageReference: SDA14B; PackageDescription: LLP, Plastic, Dual, 4 x 4 x 0.8mm Body, 14 Lead, 0.5mm Pitch, No Pullback; RoHS: Y; PinCount: 14; High-Reliability: Y; ComponentLink1Description: Manufacturer URL; ComponentLink1URL: http://www.national.com/; ComponentLink2Description: LM95234 Datasheet; ComponentLink2URL: http://www.national.com/ds/LM/LM95234.pdf; ComponentLink3Description: LM95234 Web Page; ComponentLink3URL: http://www.national.com/pf/LM/LM95234.html; ComponentLink4Description: SDA14B Package Page; ComponentLink4URL: http://www.national.com/packaging/folders/sda14b.html
footprint SDA14B (SON, 14-Leads, Body 4x4mm, Pitch 0.5mm, NSC Recommended)
pins: 1 NC, 2 VDD (power), 3 D4+, 4 D3+, 5 D-, 6 D2+, 7 D1+, 8 GND (power), 9 A0 (in), 10 ~{TCRIT1} (oc), 11 ~{TCRIT2} (oc), 12 SMBDAT (io), 13 SMBCLK (in), 14 ~{TCRIT3} (oc), 15 DAP (power)

## LM95235CIMM
designator U?
Precision Remote Diode Temperature Sensor with SMBus Interface and TruTherm Technology, 8-pin Mini SOIC; PartNumber: LM95235CIMM; Manufacturer: National Semiconductor; PackageTopMarking: ZXTT*T36C; PowerWise: Y; CompType: Temp Sensor IC; DatasheetVersion: Aug-2008; PackageVersion: revF, Apr-2008; PackageReference: MUA08A; PackageDescription: MINI SOIC, .118 x .118 x .034in, 8 Lead, .0256in Pitch; RoHS: N; PinCount: 8; High-Reliability: Y; Code_JEDEC: MO-187-AA; ComponentLink1Description: Manufacturer URL; ComponentLink1URL: http://www.national.com/; ComponentLink2Description: LM95235 Datasheet; ComponentLink2URL: http://www.national.com/ds/LM/LM95235.pdf; ComponentLink3Description: LM95235 Web Page; ComponentLink3URL: http://www.national.com/pf/LM/LM95235.html; ComponentLink4Description: MUA08A Package Page; ComponentLink4URL: http://www.national.com/packaging/folders/mua08a.html
footprint MUA08A_N (TSOP, 8-Leads, Body 3x3mm, Pitch 0.65mm, IPC Medium Density)
footprint MUA08A_L (TSOP, 8-Leads, Body 3x3mm, Pitch 0.65mm, IPC High Density)
footprint MUA08A_M (TSOP, 8-Leads, Body 3x3mm, Pitch 0.65mm, IPC Low Density)
pins: 1 VDD (power), 2 D+ (in), 3 D- (in), 4 ~{T_CRIT} (oc), 5 GND (power), 6 ~{OS}/A0 (io), 7 SMBDAT (io), 8 SMBCLK (in)

## LM95235CIMM/NOPB
designator U?
Precision Remote Diode Temperature Sensor with SMBus Interface and TruTherm Technology, 8-pin Mini SOIC, Pb-Free; PartNumber: LM95235CIMM/NOPB; Manufacturer: National Semiconductor; PackageTopMarking: ZXTT*T36C; PowerWise: Y; CompType: Temp Sensor IC; DatasheetVersion: Aug-2008; PackageVersion: revF, Apr-2008; PackageReference: MUA08A; PackageDescription: MINI SOIC, .118 x .118 x .034in, 8 Lead, .0256in Pitch; RoHS: Y; PinCount: 8; High-Reliability: Y; Code_JEDEC: MO-187-AA; ComponentLink1Description: Manufacturer URL; ComponentLink1URL: http://www.national.com/; ComponentLink2Description: LM95235 Datasheet; ComponentLink2URL: http://www.national.com/ds/LM/LM95235.pdf; ComponentLink3Description: LM95235 Web Page; ComponentLink3URL: http://www.national.com/pf/LM/LM95235.html; ComponentLink4Description: MUA08A Package Page; ComponentLink4URL: http://www.national.com/packaging/folders/mua08a.html
footprint MUA08A_N (TSOP, 8-Leads, Body 3x3mm, Pitch 0.65mm, IPC Medium Density)
footprint MUA08A_L (TSOP, 8-Leads, Body 3x3mm, Pitch 0.65mm, IPC High Density)
footprint MUA08A_M (TSOP, 8-Leads, Body 3x3mm, Pitch 0.65mm, IPC Low Density)
pins: 1 VDD (power), 2 D+ (in), 3 D- (in), 4 ~{T_CRIT} (oc), 5 GND (power), 6 ~{OS}/A0 (io), 7 SMBDAT (io), 8 SMBCLK (in)

## LM95235CIMMX
designator U?
Precision Remote Diode Temperature Sensor with SMBus Interface and TruTherm Technology, 8-pin Mini SOIC; PartNumber: LM95235CIMMX; Manufacturer: National Semiconductor; PackageTopMarking: ZXTT*T36C; PowerWise: Y; CompType: Temp Sensor IC; DatasheetVersion: Aug-2008; PackageVersion: revF, Apr-2008; PackageReference: MUA08A; PackageDescription: MINI SOIC, .118 x .118 x .034in, 8 Lead, .0256in Pitch; RoHS: N; PinCount: 8; High-Reliability: Y; Code_JEDEC: MO-187-AA; ComponentLink1Description: Manufacturer URL; ComponentLink1URL: http://www.national.com/; ComponentLink2Description: LM95235 Datasheet; ComponentLink2URL: http://www.national.com/ds/LM/LM95235.pdf; ComponentLink3Description: LM95235 Web Page; ComponentLink3URL: http://www.national.com/pf/LM/LM95235.html; ComponentLink4Description: MUA08A Package Page; ComponentLink4URL: http://www.national.com/packaging/folders/mua08a.html
footprint MUA08A_N (TSOP, 8-Leads, Body 3x3mm, Pitch 0.65mm, IPC Medium Density)
footprint MUA08A_L (TSOP, 8-Leads, Body 3x3mm, Pitch 0.65mm, IPC High Density)
footprint MUA08A_M (TSOP, 8-Leads, Body 3x3mm, Pitch 0.65mm, IPC Low Density)
pins: 1 VDD (power), 2 D+ (in), 3 D- (in), 4 ~{T_CRIT} (oc), 5 GND (power), 6 ~{OS}/A0 (io), 7 SMBDAT (io), 8 SMBCLK (in)

## LM95235CIMMX/NOPB
designator U?
Precision Remote Diode Temperature Sensor with SMBus Interface and TruTherm Technology, 8-pin Mini SOIC, Pb-Free; PartNumber: LM95235CIMMX/NOPB; Manufacturer: National Semiconductor; PackageTopMarking: ZXTT*T36C; PowerWise: Y; CompType: Temp Sensor IC; DatasheetVersion: Aug-2008; PackageVersion: revF, Apr-2008; PackageReference: MUA08A; PackageDescription: MINI SOIC, .118 x .118 x .034in, 8 Lead, .0256in Pitch; RoHS: Y; PinCount: 8; High-Reliability: Y; Code_JEDEC: MO-187-AA; ComponentLink1Description: Manufacturer URL; ComponentLink1URL: http://www.national.com/; ComponentLink2Description: LM95235 Datasheet; ComponentLink2URL: http://www.national.com/ds/LM/LM95235.pdf; ComponentLink3Description: LM95235 Web Page; ComponentLink3URL: http://www.national.com/pf/LM/LM95235.html; ComponentLink4Description: MUA08A Package Page; ComponentLink4URL: http://www.national.com/packaging/folders/mua08a.html
footprint MUA08A_N (TSOP, 8-Leads, Body 3x3mm, Pitch 0.65mm, IPC Medium Density)
footprint MUA08A_L (TSOP, 8-Leads, Body 3x3mm, Pitch 0.65mm, IPC High Density)
footprint MUA08A_M (TSOP, 8-Leads, Body 3x3mm, Pitch 0.65mm, IPC Low Density)
pins: 1 VDD (power), 2 D+ (in), 3 D- (in), 4 ~{T_CRIT} (oc), 5 GND (power), 6 ~{OS}/A0 (io), 7 SMBDAT (io), 8 SMBCLK (in)

## LM95235DIMM
designator U?
Precision Remote Diode Temperature Sensor with SMBus Interface and TruTherm Technology, 8-pin Mini SOIC; PartNumber: LM95235DIMM; Manufacturer: National Semiconductor; PackageTopMarking: ZXTT*T36D; PowerWise: N; CompType: Temp Sensor IC; High-Reliability: Y; DatasheetVersion: Aug-2008; PackageVersion: revF, Apr-2008; PackageReference: MUA08A; PackageDescription: MINI SOIC, .118 x .118 x .034in, 8 Lead, .0256in Pitch; RoHS: N; PinCount: 8; Code_JEDEC: MO-187-AA; ComponentLink1Description: Manufacturer URL; ComponentLink1URL: http://www.national.com/; ComponentLink2Description: LM95235 Datasheet; ComponentLink2URL: http://www.national.com/ds/LM/LM95235.pdf; ComponentLink3Description: LM95235 Web Page; ComponentLink3URL: http://www.national.com/pf/LM/LM95235.html; ComponentLink4Description: MUA08A Package Page; ComponentLink4URL: http://www.national.com/packaging/folders/mua08a.html
footprint MUA08A_N (TSOP, 8-Leads, Body 3x3mm, Pitch 0.65mm, IPC Medium Density)
footprint MUA08A_L (TSOP, 8-Leads, Body 3x3mm, Pitch 0.65mm, IPC High Density)
footprint MUA08A_M (TSOP, 8-Leads, Body 3x3mm, Pitch 0.65mm, IPC Low Density)
pins: 1 VDD (power), 2 D+ (in), 3 D- (in), 4 ~{T_CRIT} (oc), 5 GND (power), 6 ~{OS}/A0 (io), 7 SMBDAT (io), 8 SMBCLK (in)

## LM95235DIMMX
designator U?
Precision Remote Diode Temperature Sensor with SMBus Interface and TruTherm Technology, 8-pin Mini SOIC; PartNumber: LM95235DIMMX; Manufacturer: National Semiconductor; PackageTopMarking: ZXTT*T36D; PowerWise: N; CompType: Temp Sensor IC; High-Reliability: Y; DatasheetVersion: Aug-2008; PackageVersion: revF, Apr-2008; PackageReference: MUA08A; PackageDescription: MINI SOIC, .118 x .118 x .034in, 8 Lead, .0256in Pitch; RoHS: N; PinCount: 8; Code_JEDEC: MO-187-AA; ComponentLink1Description: Manufacturer URL; ComponentLink1URL: http://www.national.com/; ComponentLink2Description: LM95235 Datasheet; ComponentLink2URL: http://www.national.com/ds/LM/LM95235.pdf; ComponentLink3Description: LM95235 Web Page; ComponentLink3URL: http://www.national.com/pf/LM/LM95235.html; ComponentLink4Description: MUA08A Package Page; ComponentLink4URL: http://www.national.com/packaging/folders/mua08a.html
footprint MUA08A_N (TSOP, 8-Leads, Body 3x3mm, Pitch 0.65mm, IPC Medium Density)
footprint MUA08A_L (TSOP, 8-Leads, Body 3x3mm, Pitch 0.65mm, IPC High Density)
footprint MUA08A_M (TSOP, 8-Leads, Body 3x3mm, Pitch 0.65mm, IPC Low Density)
pins: 1 VDD (power), 2 D+ (in), 3 D- (in), 4 ~{T_CRIT} (oc), 5 GND (power), 6 ~{OS}/A0 (io), 7 SMBDAT (io), 8 SMBCLK (in)

## LM95235EIMM
designator U?
Precision Remote Diode Temperature Sensor with SMBus Interface and TruTherm Technology, 8-pin Mini SOIC; PartNumber: LM95235EIMM; Manufacturer: National Semiconductor; PackageTopMarking: ZXTT*T36E; PowerWise: N; CompType: Temp Sensor IC; High-Reliability: Y; DatasheetVersion: Aug-2008; PackageVersion: revF, Apr-2008; PackageReference: MUA08A; PackageDescription: MINI SOIC, .118 x .118 x .034in, 8 Lead, .0256in Pitch; RoHS: N; PinCount: 8; Code_JEDEC: MO-187-AA; ComponentLink1Description: Manufacturer URL; ComponentLink1URL: http://www.national.com/; ComponentLink2Description: LM95235 Datasheet; ComponentLink2URL: http://www.national.com/ds/LM/LM95235.pdf; ComponentLink3Description: LM95235 Web Page; ComponentLink3URL: http://www.national.com/pf/LM/LM95235.html; ComponentLink4Description: MUA08A Package Page; ComponentLink4URL: http://www.national.com/packaging/folders/mua08a.html
footprint MUA08A_N (TSOP, 8-Leads, Body 3x3mm, Pitch 0.65mm, IPC Medium Density)
footprint MUA08A_L (TSOP, 8-Leads, Body 3x3mm, Pitch 0.65mm, IPC High Density)
footprint MUA08A_M (TSOP, 8-Leads, Body 3x3mm, Pitch 0.65mm, IPC Low Density)
pins: 1 VDD (power), 2 D+ (in), 3 D- (in), 4 ~{T_CRIT} (oc), 5 GND (power), 6 ~{OS}/A0 (io), 7 SMBDAT (io), 8 SMBCLK (in)

## LM95235EIMMX
designator U?
Precision Remote Diode Temperature Sensor with SMBus Interface and TruTherm Technology, 8-pin Mini SOIC; PartNumber: LM95235EIMMX; Manufacturer: National Semiconductor; PackageTopMarking: ZXTT*T36E; PowerWise: N; CompType: Temp Sensor IC; High-Reliability: Y; DatasheetVersion: Aug-2008; PackageVersion: revF, Apr-2008; PackageReference: MUA08A; PackageDescription: MINI SOIC, .118 x .118 x .034in, 8 Lead, .0256in Pitch; RoHS: N; PinCount: 8; Code_JEDEC: MO-187-AA; ComponentLink1Description: Manufacturer URL; ComponentLink1URL: http://www.national.com/; ComponentLink2Description: LM95235 Datasheet; ComponentLink2URL: http://www.national.com/ds/LM/LM95235.pdf; ComponentLink3Description: LM95235 Web Page; ComponentLink3URL: http://www.national.com/pf/LM/LM95235.html; ComponentLink4Description: MUA08A Package Page; ComponentLink4URL: http://www.national.com/packaging/folders/mua08a.html
footprint MUA08A_N (TSOP, 8-Leads, Body 3x3mm, Pitch 0.65mm, IPC Medium Density)
footprint MUA08A_L (TSOP, 8-Leads, Body 3x3mm, Pitch 0.65mm, IPC High Density)
footprint MUA08A_M (TSOP, 8-Leads, Body 3x3mm, Pitch 0.65mm, IPC Low Density)
pins: 1 VDD (power), 2 D+ (in), 3 D- (in), 4 ~{T_CRIT} (oc), 5 GND (power), 6 ~{OS}/A0 (io), 7 SMBDAT (io), 8 SMBCLK (in)

## LM95235QEIMM
designator U?
Precision Remote Diode Temperature Sensor with SMBus Interface and TruTherm Technology, 8-pin Mini SOIC; PartNumber: LM95235QEIMM; Manufacturer: National Semiconductor; PackageTopMarking: ZXTT*36QE; PowerWise: N; CompType: Temp Sensor IC; High-Reliability: Y; DatasheetVersion: Aug-2008; PackageVersion: revF, Apr-2008; PackageReference: MUA08A; PackageDescription: MINI SOIC, .118 x .118 x .034in, 8 Lead, .0256in Pitch; RoHS: N; PinCount: 8; Code_JEDEC: MO-187-AA; ComponentLink1Description: Manufacturer URL; ComponentLink1URL: http://www.national.com/; ComponentLink2Description: LM95235 Datasheet; ComponentLink2URL: http://www.national.com/ds/LM/LM95235.pdf; ComponentLink3Description: LM95235 Web Page; ComponentLink3URL: http://www.national.com/pf/LM/LM95235.html; ComponentLink4Description: MUA08A Package Page; ComponentLink4URL: http://www.national.com/packaging/folders/mua08a.html
footprint MUA08A_N (TSOP, 8-Leads, Body 3x3mm, Pitch 0.65mm, IPC Medium Density)
footprint MUA08A_L (TSOP, 8-Leads, Body 3x3mm, Pitch 0.65mm, IPC High Density)
footprint MUA08A_M (TSOP, 8-Leads, Body 3x3mm, Pitch 0.65mm, IPC Low Density)
pins: 1 VDD (power), 2 D+ (in), 3 D- (in), 4 ~{T_CRIT} (oc), 5 GND (power), 6 ~{OS}/A0 (io), 7 SMBDAT (io), 8 SMBCLK (in)

## LM95235QEIMM/NOPB
designator U?
Precision Remote Diode Temperature Sensor with SMBus Interface and TruTherm Technology, 8-pin Mini SOIC, Pb-Free; PartNumber: LM95235QEIMM/NOPB; Manufacturer: National Semiconductor; PackageTopMarking: ZXTT*36QE; PowerWise: N; CompType: Temp Sensor IC; High-Reliability: Y; DatasheetVersion: Aug-2008; PackageVersion: revF, Apr-2008; PackageReference: MUA08A; PackageDescription: MINI SOIC, .118 x .118 x .034in, 8 Lead, .0256in Pitch; RoHS: Y; PinCount: 8; Code_JEDEC: MO-187-AA; ComponentLink1Description: Manufacturer URL; ComponentLink1URL: http://www.national.com/; ComponentLink2Description: LM95235 Datasheet; ComponentLink2URL: http://www.national.com/ds/LM/LM95235.pdf; ComponentLink3Description: LM95235 Web Page; ComponentLink3URL: http://www.national.com/pf/LM/LM95235.html; ComponentLink4Description: MUA08A Package Page; ComponentLink4URL: http://www.national.com/packaging/folders/mua08a.html
footprint MUA08A_N (TSOP, 8-Leads, Body 3x3mm, Pitch 0.65mm, IPC Medium Density)
footprint MUA08A_L (TSOP, 8-Leads, Body 3x3mm, Pitch 0.65mm, IPC High Density)
footprint MUA08A_M (TSOP, 8-Leads, Body 3x3mm, Pitch 0.65mm, IPC Low Density)
pins: 1 VDD (power), 2 D+ (in), 3 D- (in), 4 ~{T_CRIT} (oc), 5 GND (power), 6 ~{OS}/A0 (io), 7 SMBDAT (io), 8 SMBCLK (in)

## LM95235QEIMMX
designator U?
Precision Remote Diode Temperature Sensor with SMBus Interface and TruTherm Technology, 8-pin Mini SOIC; PartNumber: LM95235QEIMMX; Manufacturer: National Semiconductor; PackageTopMarking: ZXTT*36QE; PowerWise: N; CompType: Temp Sensor IC; High-Reliability: Y; DatasheetVersion: Aug-2008; PackageVersion: revF, Apr-2008; PackageReference: MUA08A; PackageDescription: MINI SOIC, .118 x .118 x .034in, 8 Lead, .0256in Pitch; RoHS: N; PinCount: 8; Code_JEDEC: MO-187-AA; ComponentLink1Description: Manufacturer URL; ComponentLink1URL: http://www.national.com/; ComponentLink2Description: LM95235 Datasheet; ComponentLink2URL: http://www.national.com/ds/LM/LM95235.pdf; ComponentLink3Description: LM95235 Web Page; ComponentLink3URL: http://www.national.com/pf/LM/LM95235.html; ComponentLink4Description: MUA08A Package Page; ComponentLink4URL: http://www.national.com/packaging/folders/mua08a.html
footprint MUA08A_N (TSOP, 8-Leads, Body 3x3mm, Pitch 0.65mm, IPC Medium Density)
footprint MUA08A_L (TSOP, 8-Leads, Body 3x3mm, Pitch 0.65mm, IPC High Density)
footprint MUA08A_M (TSOP, 8-Leads, Body 3x3mm, Pitch 0.65mm, IPC Low Density)
pins: 1 VDD (power), 2 D+ (in), 3 D- (in), 4 ~{T_CRIT} (oc), 5 GND (power), 6 ~{OS}/A0 (io), 7 SMBDAT (io), 8 SMBCLK (in)

## LM95235QEIMMX/NOPB
designator U?
Precision Remote Diode Temperature Sensor with SMBus Interface and TruTherm Technology, 8-pin Mini SOIC, Pb-Free; PartNumber: LM95235QEIMMX/NOPB; Manufacturer: National Semiconductor; PackageTopMarking: ZXTT*36QE; PowerWise: N; CompType: Temp Sensor IC; High-Reliability: Y; DatasheetVersion: Aug-2008; PackageVersion: revF, Apr-2008; PackageReference: MUA08A; PackageDescription: MINI SOIC, .118 x .118 x .034in, 8 Lead, .0256in Pitch; RoHS: Y; PinCount: 8; Code_JEDEC: MO-187-AA; ComponentLink1Description: Manufacturer URL; ComponentLink1URL: http://www.national.com/; ComponentLink2Description: LM95235 Datasheet; ComponentLink2URL: http://www.national.com/ds/LM/LM95235.pdf; ComponentLink3Description: LM95235 Web Page; ComponentLink3URL: http://www.national.com/pf/LM/LM95235.html; ComponentLink4Description: MUA08A Package Page; ComponentLink4URL: http://www.national.com/packaging/folders/mua08a.html
footprint MUA08A_N (TSOP, 8-Leads, Body 3x3mm, Pitch 0.65mm, IPC Medium Density)
footprint MUA08A_L (TSOP, 8-Leads, Body 3x3mm, Pitch 0.65mm, IPC High Density)
footprint MUA08A_M (TSOP, 8-Leads, Body 3x3mm, Pitch 0.65mm, IPC Low Density)
pins: 1 VDD (power), 2 D+ (in), 3 D- (in), 4 ~{T_CRIT} (oc), 5 GND (power), 6 ~{OS}/A0 (io), 7 SMBDAT (io), 8 SMBCLK (in)

## LM95241CIMM
designator U?
Dual Remote Diode Temperature Sensor with SMBus Interface and TruTherm Technology (65nm/90nm), 8-pin Mini SOIC; PartNumber: LM95241CIMM; Manufacturer: National Semiconductor; PackageTopMarking: ZXTT*T28C; PowerWise: Y; CompType: Temp Sensor IC; DatasheetVersion: Sep-2006; PackageVersion: revF, Apr-2008; PackageReference: MUA08A; PackageDescription: MINI SOIC, .118 x .118 x .034in, 8 Lead, .0256in Pitch; RoHS: N; PinCount: 8; High-Reliability: Y; Code_JEDEC: MO-187-AA; ComponentLink1Description: Manufacturer URL; ComponentLink1URL: http://www.national.com/; ComponentLink2Description: LM95241 Datasheet; ComponentLink2URL: http://www.national.com/ds/LM/LM95241.pdf; ComponentLink3Description: LM95241 Web Page; ComponentLink3URL: http://www.national.com/pf/LM/LM95241.html; ComponentLink4Description: MUA08A Package Page; ComponentLink4URL: http://www.national.com/packaging/folders/mua08a.html
footprint MUA08A_N (TSOP, 8-Leads, Body 3x3mm, Pitch 0.65mm, IPC Medium Density)
footprint MUA08A_L (TSOP, 8-Leads, Body 3x3mm, Pitch 0.65mm, IPC High Density)
footprint MUA08A_M (TSOP, 8-Leads, Body 3x3mm, Pitch 0.65mm, IPC Low Density)
pins: 1 D1+, 2 D1-, 3 D2+, 4 D2-, 5 GND (power), 6 VDD (power), 7 SMBDAT (io), 8 SMBCLK (in)